# Altium schematic symbol library CG590LS.SchLib: 1 symbol
Pins are listed as number, name and electrical type; pins without a type are passive.

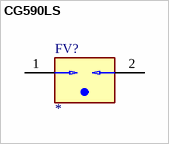
[diagram p0: symbol CG590LS]

## CG590LS
designator FV?
Undefined or Miscellaneous; Manufacturer_Name: LITTELFUSE; Manufacturer_Part_Number: CG590LS; Datasheet Link: https://www.littelfuse.com/~/media/electronics/datasheets/gas_discharge_tubes/littelfuse_gdt_cg5_sl0902a_datasheet.pdf.pdf; Height: 5.6mm; Mouser Part Number: 576-CG590LS; Mouser Price/Stock: https://www.mouser.co.uk/ProductDetail/Littelfuse/CG590LS?qs=cIziFXvMxOVERFOF8cRf9g%3D%3D; Arrow Part Number: CG590LS; Arrow Price/Stock: https://www.arrow.com/en/products/cg590ls/littelfuse
footprint CG590LS
pins: 1, 2